# EAGLE library part DM3AT (library CON-Hirose-AON)
SD Card connector/holder
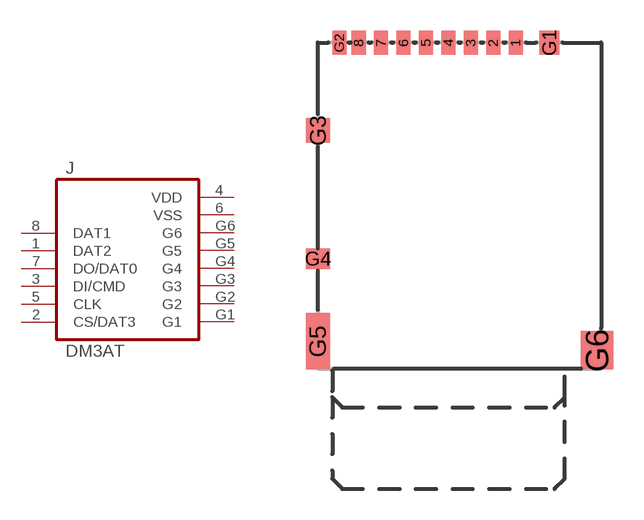
[diagram p1: symbol with the pads of DM3AT; footprint DM3AT]

Designator prefix J

## DM3AT  [DM3AT]
1  DAT2  pas
2  CS/DAT3  pas
3  DI/CMD  pas
4  VDD  pas
5  CLK  pas
6  VSS  pas
7  DO/DAT0  pas
8  DAT1  pas
G1  G1  pas
G2  G2  pas
G3  G3  pas
G4  G4  pas
G5  G5  pas
G6  G6  pas

## Footprint DM3AT (pad centres in mm)
Jara 28-8-2017 dukladne doladeny rozmery a polohy padu, pady vystrceny na 0.6mm pres obrys aby se daly pajet rucne, fyzicky jsou pady skoro zaroven s obrysem max. 0.1mm pres obrys takze pro strojni pajeni by to slo zmensit, smerem dovnitr jsou pady akorat, restrikty pro vodice asi neni potreba dodrzovat pokud tam bude maska a slo by je vyhodit nebo dat do potisku aby se zesilila kryci vrstva
smd 0.69 x 1.19: 1 3.3,8; 2 2.2,8; 3 1.1,8; 4 0,8; 5 -1.1,8; 6 -2.2,8; 7 -3.3,8; 8 -4.4,8; G2 -5.35,8
smd 0.99 x 1.19: G1 4.95,8
smd 1.19 x 1.19: G3 -6.4,3.7
smd 1.19 x 0.99: G4 -6.4,-2.6
smd 1.19 x 2.79: G5 -6.4,-6.65
smd 1.59 x 1.89: G6 7.3,-7.1